# Altium schematic symbol library MCP970x.SchLib: 1 symbol
Pins are listed as number, name and electrical type; pins without a type are passive.

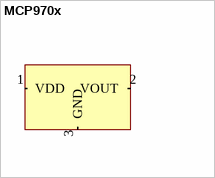
[diagram p0: symbol MCP970x]

## MCP970x
designator U?
Manufacturer_id: 1; idFuse: 3; Name: 3568 Mini Fuse Holder; Drawer_id: 1
footprint 3568-MiniFuseHolder
pins: 1 VDD (in), 2 VOUT (in), 3 GND (in)